# Altium schematic symbol library BQ76200PW.SchLib: 1 symbol
Pins are listed as number, name and electrical type; pins without a type are passive.

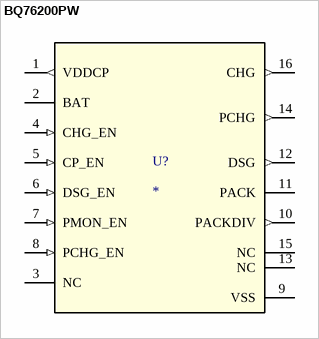
[diagram p0: symbol BQ76200PW]

## BQ76200PW
designator U?
No Description Available; PartNumber: BQ76200PWR; Alternate_PartNumber: BQ76200PW; Manufacturer: Texas Instruments; CompType: IC; PIN_COUNT: 16; Application_BuildNumber: *; PackageReference: PW0016A; MountType: SMT; RoHS: Y; RefDes: RefDes; Type: DEV; Value: Value; Copyright: Copyright (C) 2018 Accelerated Designs. All rights reserved
footprint PW0016A_N
pins: 1 VDDCP (out), 2 BAT (power), 3 NC, 4 CHG_EN (in), 5 CP_EN (in), 6 DSG_EN (in), 7 PMON_EN (in), 8 PCHG_EN (in), 9 VSS (power), 10 PACKDIV (out), 11 PACK (power), 12 DSG (out), 13 NC, 14 PCHG (out), 15 NC, 16 CHG (out)